# Altium footprint library SUPER28335.PcbLib: 44 footprints (part 2 of 3)
Each footprint in its own frame and in the unit in brackets; x right, y up, seen from the top. Pads: shape width x height; smd on the part's side, far side on the other; paste and mask are expansions set on the pad; w line width, h text height; cw(c..) or ccw(c..) is an arc to the next point about the centre after c.
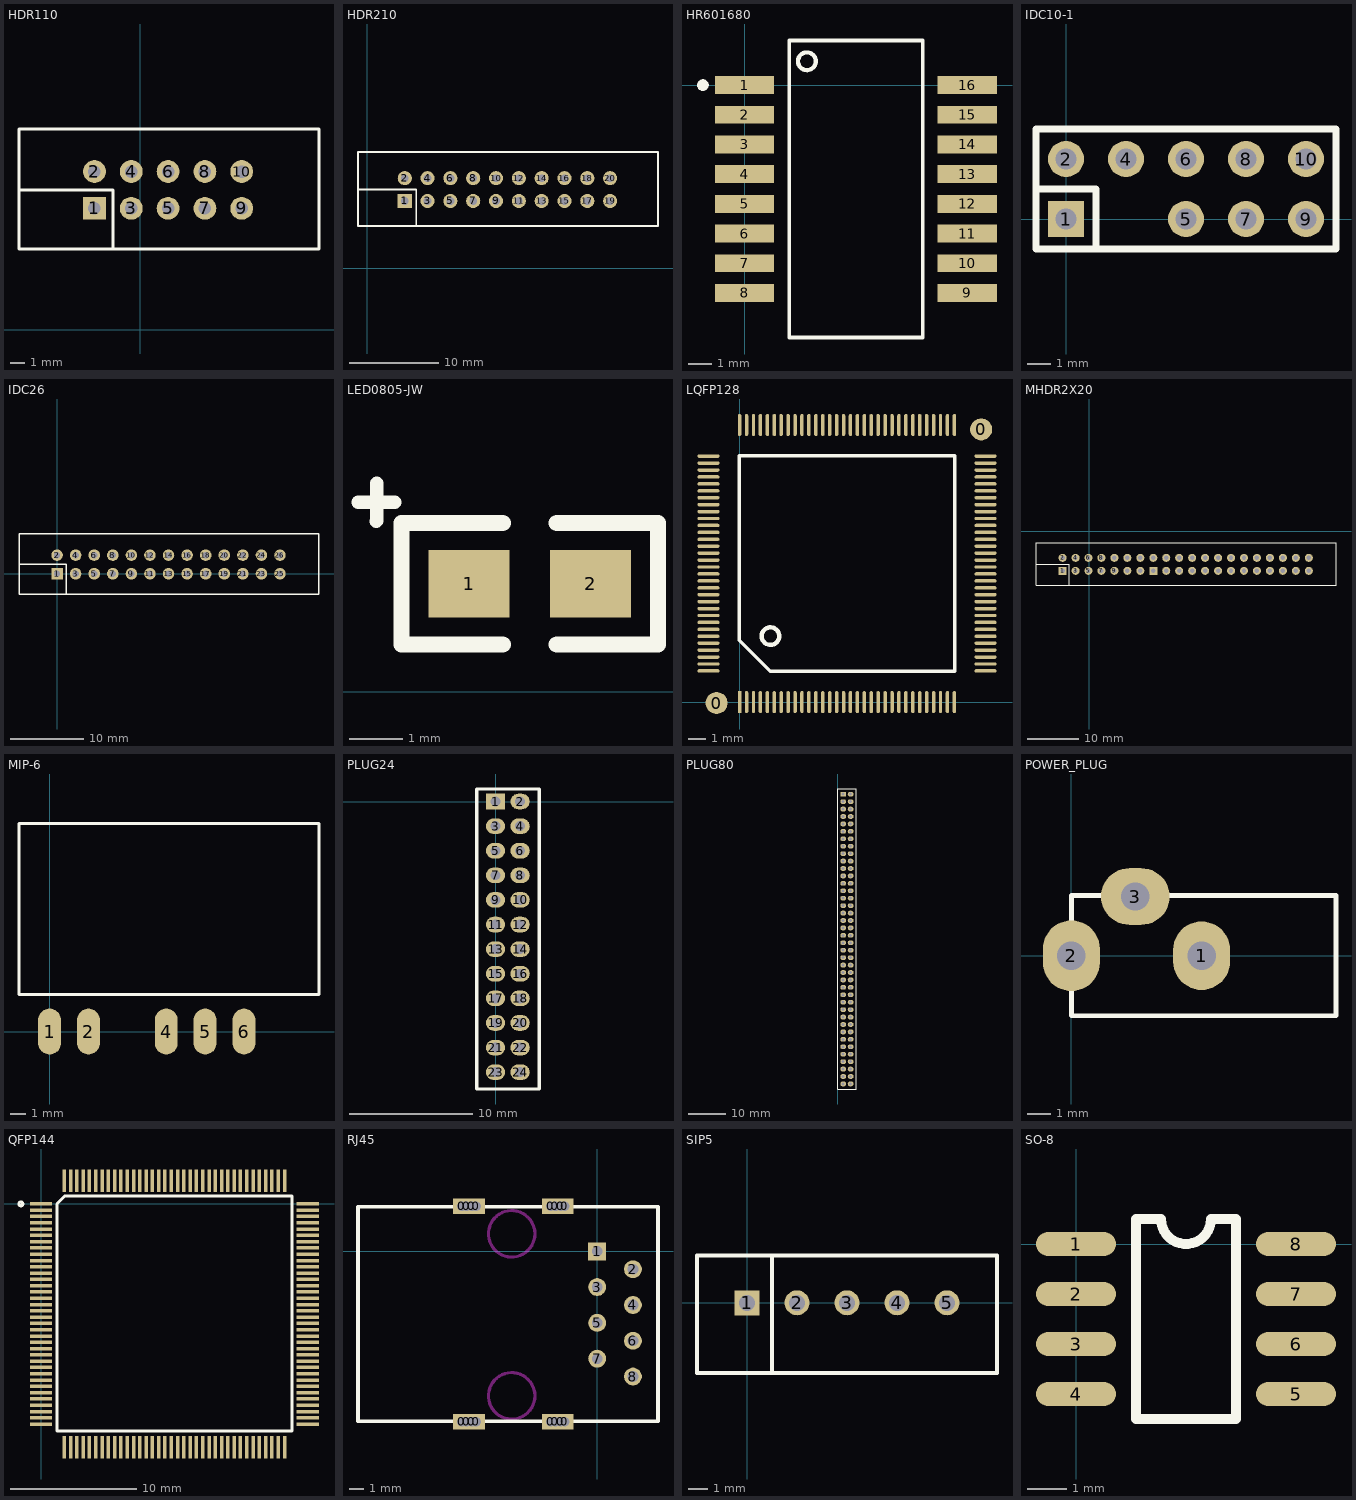
[diagram p1: the footprints below, top view; thin cyan lines are the x and y axes]

## HDR110 [mil] "Connector; Header; 10 Position"
height 47.24
pads (10):
  rect 62x62 hole 34: 1(-125,330)
  round 62 hole 34: 2(-125,430) 3(-25,330) 4(-25,430) 5(75,330) 6(75,430) 7(175,330) 8(175,430) 9(275,330) 10(275,430)
Top Overlay:
  lines w8: -330,380 -175,380 -75,380 -75,280 -75,220 ; 485,430 485,545 315,545 -160,545 -330,545 -330,220 -165,220 325,220 485,220 485,275 485,475

## HDR210 [mil] "Connector; Header; 10x2 Position"
pads (20):
  rect 62x62 hole 34: 1(165,295)
  round 62 hole 34: 2(165,395) 3(265,295) 4(265,395) 5(365,295) 6(365,395) 7(465,295) 8(465,395) 9(565,295) 10(565,395) 11(665,295) 12(665,395) 13(765,295) 14(765,395) 15(865,295) 16(865,395) 17(965,295) 18(965,395) 19(1065,295) 20(1065,395)
Top Overlay:
  lines w8: -40,345 115,345 215,345 215,245 215,185 ; 1275,395 1275,510 1105,510 130,510 -40,510 -40,185 125,185 1115,185 1275,185 1275,240 1275,440

## HR601680 [mil]
height 66.93
pads (17):
  rect 100x30 smd: 1(0,0) 2(0,-50) 3(0,-100) 4(0,-150) 5(0,-200) 6(0,-250) 7(0,-300) 8(0,-350) 9(375,-350) 10(375,-300) 11(375,-250) 12(375,-200) 13(375,-150) 14(375,-100) 15(375,-50) 16(375,0)
  round 20 on Top Overlay: ""(-70,0)
Top Overlay:
  circle w7: c105,40 r15
  lines w6: 75,-425 75,75 300,75 300,-425 75,-425

## IDC10-1 [mil]
pads (9):
  rect 60x60 hole 35 mask+4: 1(0,0)
  round 60 hole 35 mask+4: 2(0,100) 4(100,100) 5(200,0) 6(200,100) 7(300,0) 8(300,100) 9(400,0) 10(400,100)
Top Overlay:
  lines w12: -50,50 50,50 50,-50 ; -50,-50 450,-50 450,150 -50,150 -50,-50

## IDC26 [mil]
pads (26):
  rect 62x62 hole 34: 1(0,0)
  round 62 hole 34: 2(0,100) 3(100,0) 4(100,100) 5(200,0) 6(200,100) 7(300,0) 8(300,100) 9(400,0) 10(400,100) 11(500,0) 12(500,100) 13(600,0) 14(600,100) 15(700,0) 16(700,100) 17(800,0) 18(800,100) 19(900,0) 20(900,100) 21(1000,0) 22(1000,100) 23(1100,0) 24(1100,100) 25(1200,0) 26(1200,100)
Top Overlay:
  lines w8: -205,50 -50,50 50,50 50,-50 50,-110 ; -50,215 1250,215 ; -35,215 -205,215 -205,-110 -40,-110 1260,-110 ; 1240,215 1410,215 1410,100 ; 1250,-110 1410,-110 1410,-55 1410,145

## LED0805-JW [mil]
pads (2):
  rect 60x50 smd: 1(100,80) 2(190,80)
Top Overlay:
  lines w10: 17.72,140.55 44.88,140.55 ; 31.1,126.38 31.5,126.77 31.5,154.33
  lines w12: 125,35 50,35 50,125 125,125 ; 165,35 240,35 240,125 165,125

## LQFP128 [mm]
height 1.7
pads (130):
  round 1.27 smd: 0(-1.33,-0.053) 0(13.946,15.746)
  rect 0.2x1.27 smd: 1(0,0)
  oval 0.2x1.27 smd: 2(0.4,0) 3(0.8,0) 4(1.2,0) 5(1.6,0) 6(2,0) 7(2.4,0) 8(2.8,0) 9(3.2,0) 10(3.6,0) 11(4,0) 12(4.4,0) 13(4.8,0) 14(5.2,0) 15(5.6,0) 16(6,0) 17(6.4,0) 18(6.8,0) 19(7.2,0) 20(7.6,0) 21(8,0) 22(8.4,0) 23(8.8,0) 24(9.2,0) 25(9.6,0) 26(10,0) 27(10.4,0) 28(10.8,0) 29(11.2,0) 30(11.6,0) 31(12,0) 32(12.4,0) 65(12.4,16) 66(12,16) 67(11.6,16) 68(11.2,16) 69(10.8,16) 70(10.4,16) 71(10,16) 72(9.6,16) 73(9.2,16) 74(8.8,16) 75(8.4,16) 76(8,16) 77(7.6,16) 78(7.2,16) 79(6.8,16) 80(6.4,16) 81(6,16) 82(5.6,16) 83(5.2,16) 84(4.8,16) 85(4.4,16) 86(4,16) 87(3.6,16) 88(3.2,16) 89(2.8,16) 90(2.4,16) 91(2,16) 92(1.6,16) 93(1.2,16) 94(0.8,16) 95(0.4,16) 96(0,16)
  oval 1.27x0.2 smd: 33(14.2,1.8) 34(14.2,2.2) 35(14.2,2.6) 36(14.2,3) 37(14.2,3.4) 38(14.2,3.8) 39(14.2,4.2) 40(14.2,4.6) 41(14.2,5) 42(14.2,5.4) 43(14.2,5.8) 44(14.2,6.2) 45(14.2,6.6) 46(14.2,7) 47(14.2,7.4) 48(14.2,7.8) 49(14.2,8.2) 50(14.2,8.6) 51(14.2,9) 52(14.2,9.4) 53(14.2,9.8) 54(14.2,10.2) 55(14.2,10.6) 56(14.2,11) 57(14.2,11.4) 58(14.2,11.8) 59(14.2,12.2) 60(14.2,12.6) 61(14.2,13) 62(14.2,13.4) 63(14.2,13.8) 64(14.2,14.2) 97(-1.8,14.2) 98(-1.8,13.8) 99(-1.8,13.4) 100(-1.8,13) 101(-1.8,12.6) 102(-1.8,12.2) 103(-1.8,11.8) 104(-1.8,11.4) 105(-1.8,11) 106(-1.8,10.6) 107(-1.8,10.2) 108(-1.8,9.8) 109(-1.8,9.4) 110(-1.8,9) 111(-1.8,8.6) 112(-1.8,8.2) 113(-1.8,7.8) 114(-1.8,7.4) 115(-1.8,7) 116(-1.8,6.6) 117(-1.8,6.2) 118(-1.8,5.8) 119(-1.8,5.4) 120(-1.8,5) 121(-1.8,4.6) 122(-1.8,4.2) 123(-1.8,3.8) 124(-1.8,3.4) 125(-1.8,3) 126(-1.8,2.6) 127(-1.8,2.2) 128(-1.8,1.8)
Top Overlay:
  circle w0.254: c1.778,3.81 r0.508
  lines w0.2: -0.015,3.57 -0.015,14.215 12.415,14.215 12.415,1.785 1.77,1.785 -0.015,3.57

## MHDR2X20 [mil] "Connector; Header; 20x2 Position"
height 47.24
pads (40):
  rect 62x62 hole 34: 1(-205,-305) 15(495,-305)
  round 62 hole 34: 2(-205,-205) 3(-105,-305) 4(-105,-205) 5(-5,-305) 6(-5,-205) 7(95,-305) 8(95,-205) 9(195,-305) 10(195,-205) 11(295,-305) 12(295,-205) 13(395,-305) 14(395,-205) 16(495,-205) 17(595,-305) 18(595,-205) 19(695,-305) 20(695,-205) 21(795,-305) 22(795,-205) 23(895,-305) 24(895,-205) 25(995,-305) 26(995,-205) 27(1095,-305) 28(1095,-205) 29(1195,-305) 30(1195,-205) 31(1295,-305) 32(1295,-205) 33(1395,-305) 34(1395,-205) 35(1495,-305) 36(1495,-205) 37(1595,-305) 38(1595,-205) 39(1695,-305) 40(1695,-205)
Top Overlay:
  lines w8: -410,-255 -255,-255 -155,-255 -155,-355 -155,-415 ; -255,-90 1045,-90 1735,-90 1905,-90 1905,-205 ; -240,-90 -410,-90 -410,-415 -245,-415 1055,-415 1755,-415 ; 1745,-415 1905,-415 1905,-360 1905,-160

## MIP-6 [mm]
pads (5):
  oval 1.5x3 smd: 1(0,0) 2(2.54,0) 4(7.62,0) 5(10.16,0) 6(12.7,0)
Top Overlay:
  lines w0.203: -2,2.424 17.6,2.424 17.6,13.6 -2,13.6 -2,2.424

## PLUG24 [mm]
pads (24):
  rect 1.57x1.27 hole 0.8: 1(0,0)
  oval 1.57x1.27 hole 0.8: 2(2,0) 3(0,-2) 4(2,-2) 5(0,-4) 6(2,-4) 7(0,-6) 8(2,-6) 9(0,-8) 10(2,-8) 11(0,-10) 12(2,-10) 13(0,-12) 14(2,-12) 15(0,-14) 16(2,-14) 17(0,-16) 18(2,-16) 19(0,-18) 20(2,-18) 21(0,-20) 22(2,-20) 23(0,-22) 24(2,-22)
Top Overlay:
  lines w0.254: -1.524,-23.368 3.556,-23.368 3.556,1.016 -1.524,1.016 -1.524,-22.86 -1.524,-23.368

## PLUG80 [mm]
pads (80):
  rect 1.57x1.27 hole 0.8: 1(1.524,125.596)
  oval 1.57x1.27 hole 0.8: 2(3.524,125.596) 3(1.524,123.596) 4(3.524,123.596) 5(1.524,121.596) 6(3.524,121.596) 7(1.524,119.596) 8(3.524,119.596) 9(1.524,117.596) 10(3.524,117.596) 11(1.524,115.596) 12(3.524,115.596) 13(1.524,113.596) 14(3.524,113.596) 15(1.524,111.596) 16(3.524,111.596) 17(1.524,109.596) 18(3.524,109.596) 19(1.524,107.596) 20(3.524,107.596) 21(1.524,105.596) 22(3.524,105.596) 23(1.524,103.596) 24(3.524,103.596) 25(1.524,101.596) 26(3.524,101.596) 27(1.524,99.596) 28(3.524,99.596) 29(1.524,97.596) 30(3.524,97.596) 31(1.524,95.596) 32(3.524,95.596) 33(1.524,93.596) 34(3.524,93.596) 35(1.524,91.596) 36(3.524,91.596) 37(1.524,89.596) 38(3.524,89.596) 39(1.524,87.596) 40(3.524,87.596) 41(1.524,85.596) 42(3.524,85.596) 43(1.524,83.596) 44(3.524,83.596) 45(1.524,81.596) 46(3.524,81.596) 47(1.524,79.596) 48(3.524,79.596) 49(1.524,77.596) 50(3.524,77.596) 51(1.524,75.596) 52(3.524,75.596) 53(1.524,73.596) 54(3.524,73.596) 55(1.524,71.596) 56(3.524,71.596) 57(1.524,69.596) 58(3.524,69.596) 59(1.524,67.596) 60(3.524,67.596) 61(1.524,65.596) 62(3.524,65.596) 63(1.524,63.596) 64(3.524,63.596) 65(1.524,61.596) 66(3.524,61.596) 67(1.524,59.596) 68(3.524,59.596) 69(1.524,57.596) 70(3.524,57.596) 71(1.524,55.596) 72(3.524,55.596) 73(1.524,53.596) 74(3.524,53.596) 75(1.524,51.596) 76(3.524,51.596) 77(1.524,49.596) 78(3.524,49.596) 79(1.524,47.596) 80(3.524,47.596)
Top Overlay:
  lines w0.203: 0,46.228 0,127 5.08,127 5.08,46.228 0,46.228

## POWER_PLUG [mm]
height 1.2
pads (3):
  oval 2.4x2.9 hole 1.2: 1(5.5,0)
  oval 2.4x2.99 hole 1.2: 2(0,0)
  oval 2.9x2.4 hole 1.2: 3(2.7,2.5)
Top Overlay:
  lines w0.203: 0,-2.54 0,2.54 11.176,2.54 11.176,-2.032 11.176,-2.54 0,-2.54

## QFP144 [mil]
pads (144):
  rect 70x11 smd mask+4: 1(0,0) 2(0,-19.68) 3(0,-39.37) 4(0,-59.05) 5(0,-78.74) 6(0,-98.42) 7(0,-118.11) 8(0,-137.79) 9(0,-157.48) 10(0,-177.16) 11(0,-196.85) 12(0,-216.53) 13(0,-236.22) 14(0,-255.91) 15(0,-275.59) 16(0,-295.28) 17(0,-314.96) 18(0,-334.65) 19(0,-354.33) 20(0,-374.02) 21(0,-393.7) 22(0,-413.39) 23(0,-433.07) 24(0,-452.76) 25(0,-472.44) 26(0,-492.13) 27(0,-511.81) 28(0,-531.5) 29(0,-551.18) 30(0,-570.87) 31(0,-590.55) 32(0,-610.24) 33(0,-629.92) 34(0,-649.61) 35(0,-669.29) 36(0,-688.98) 73(834.65,-688.98) 74(834.65,-669.29) 75(834.65,-649.61) 76(834.65,-629.92) 77(834.65,-610.24) 78(834.65,-590.55) 79(834.65,-570.87) 80(834.65,-551.18) 81(834.65,-531.5) 82(834.65,-511.81) 83(834.65,-492.13) 84(834.65,-472.44) 85(834.65,-452.76) 86(834.65,-433.07) 87(834.65,-413.39) 88(834.65,-393.7) 89(834.65,-374.02) 90(834.65,-354.33) 91(834.65,-334.65) 92(834.65,-314.96) 93(834.65,-295.28) 94(834.65,-275.59) 95(834.65,-255.91) 96(834.65,-236.22) 97(834.65,-216.53) 98(834.65,-196.85) 99(834.65,-177.16) 100(834.65,-157.48) 101(834.65,-137.79) 102(834.65,-118.11) 103(834.65,-98.42) 104(834.65,-78.74) 105(834.65,-59.05) 106(834.65,-39.37) 107(834.65,-19.68) 108(834.65,0)
  rect 11x70 smd mask+4: 37(72.83,-761.81) 38(92.52,-761.81) 39(112.2,-761.81) 40(131.89,-761.81) 41(151.57,-761.81) 42(171.26,-761.81) 43(190.94,-761.81) 44(210.63,-761.81) 45(230.31,-761.81) 46(250,-761.81) 47(269.69,-761.81) 48(289.37,-761.81) 49(309.06,-761.81) 50(328.74,-761.81) 51(348.43,-761.81) 52(368.11,-761.81) 53(387.8,-761.81) 54(407.48,-761.81) 55(427.17,-761.81) 56(446.85,-761.81) 57(466.54,-761.81) 58(486.22,-761.81) 59(505.91,-761.81) 60(525.59,-761.81) 61(545.28,-761.81) 62(564.96,-761.81) 63(584.65,-761.81) 64(604.33,-761.81) 65(624.02,-761.81) 66(643.7,-761.81) 67(663.39,-761.81) 68(683.07,-761.81) 69(702.76,-761.81) 70(722.44,-761.81) 71(742.13,-761.81) 72(761.81,-761.81) 109(761.81,72.83) 110(742.13,72.83) 111(722.44,72.83) 112(702.76,72.83) 113(683.07,72.83) 114(663.39,72.83) 115(643.7,72.83) 116(624.02,72.83) 117(604.33,72.83) 118(584.65,72.83) 119(564.96,72.83) 120(545.28,72.83) 121(525.59,72.83) 122(505.91,72.83) 123(486.22,72.83) 124(466.54,72.83) 125(446.85,72.83) 126(427.17,72.83) 127(407.48,72.83) 128(387.8,72.83) 129(368.11,72.83) 130(348.43,72.83) 131(328.74,72.83) 132(309.06,72.83) 133(289.37,72.83) 134(269.69,72.83) 135(250,72.83) 136(230.31,72.83) 137(210.63,72.83) 138(190.94,72.83) 139(171.26,72.83) 140(151.57,72.83) 141(131.89,72.83) 142(112.2,72.83) 143(92.52,72.83) 144(72.83,72.83)
Top Overlay:
  circle w9.84: c-62.99,0 r5.91
  lines w9.84: 50,-710 50,0 75,25 785,25 785,-710 50,-710

## RJ45 [mm]
height 1.7
pads (24):
  rect 1.27x1.1 hole 0.701: 0(-9.6,-12.1) 0(-9.6,3.2) 0(-9.271,-12.1) 0(-9.271,3.2) 0(-8.89,-12.1) 0(-8.89,3.2) 0(-8.6,-12.1) 0(-8.6,3.2) 0(-3.3,-12.1) 0(-3.3,3.2) 0(-2.971,-12.1) 0(-2.971,3.2) 0(-2.59,-12.1) 0(-2.59,3.2) 0(-2.3,3.2) 0(-2.3,-12.1)
  rect 1.27x1.27 hole 0.762: 1(0,0)
  round 1.27 hole 0.762: 2(2.54,-1.27) 3(0,-2.54) 4(2.54,-3.81) 5(0,-5.08) 6(2.54,-6.35) 7(0,-7.62) 8(2.54,-8.89)
Top Overlay:
  lines w0.254: -13.335,-12.065 4.318,-12.065 ; 4.318,-12.065 4.318,3.175 -16.982,3.175 -16.982,-12.065 4.318,-12.065
Keep-Out Layer:
  circle w0.229: c-6.071,-10.262 r1.651
  circle w0.229: c-6.071,1.245 r1.651

## SIP5 [mil]
pads (5):
  rect 50x50 hole 32: 1(0,0)
  round 50 hole 32: 2(100,0) 3(200,0) 4(300,0) 5(400,0)
Top Overlay:
  lines w8: -100,-55 -100,45 ; 50,-140 50,95 ; 50,-50 50,50 ; 445,-140 -55,-140 ; 500,-55 500,45 ; -55,-140 -100,-140 -100,95 -50,95 450,95 500,95 500,-140 -55,-140

## SO-8 [mil]
pads (8):
  oval 80x24 smd mask+4: 1(0,0) 2(0,-50) 3(0,-100) 4(0,-150) 5(220,-150) 6(220,-100) 7(220,-50) 8(220,0)
Top Overlay:
  lines w10: 60,-175 160,-175 160,25 135,25 cw(c110,25) 85,25 60,25 60,-175